# Altium schematic symbol library D硅堆.SchLib: 4 symbols
Pins are listed as number, name and electrical type; pins without a type are passive.

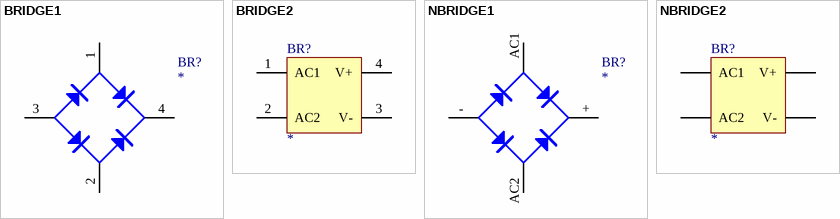
[diagram p0: symbols BRIDGE1 to NBRIDGE2]

## BRIDGE1
designator BR?
BR
footprint D1
footprint D-37R
footprint D-38
pins: 1 AC1, 2 AC2, 3 V-, 4 V+

## BRIDGE2
designator BR?
BR
footprint D1
footprint D-37R
footprint D-38
pins: 1 AC1, 2 AC2, 3 V-, 4 V+

## NBRIDGE1
designator BR?
BR
footprint D-37R
footprint D-38
footprint D-44
footprint D-46
pins: + V+, - V-, AC1, AC2

## NBRIDGE2
designator BR?
BR
footprint D-37
footprint D-38
footprint D-44
footprint D-46
pins: + V+, - V-, AC1, AC2